# EAGLE library part LX1720 (library Audio-Power-amlifier V.2.0)
The LX1720 is a highly-integrated, Switching Class-D Stereo Power Amplifier Controller IC with power and size features that make it ideal for multimedia computer applications, as well as other applications where high fidelity sound is required. With input voltage ranging from 7V- 15V, the LX1720 is designed to operate over the full 20Hz to 20kHz audio range. Signal distortion measurements using industry standard 1kHz signal yields THD + noise levels < 1% (10 watts output).
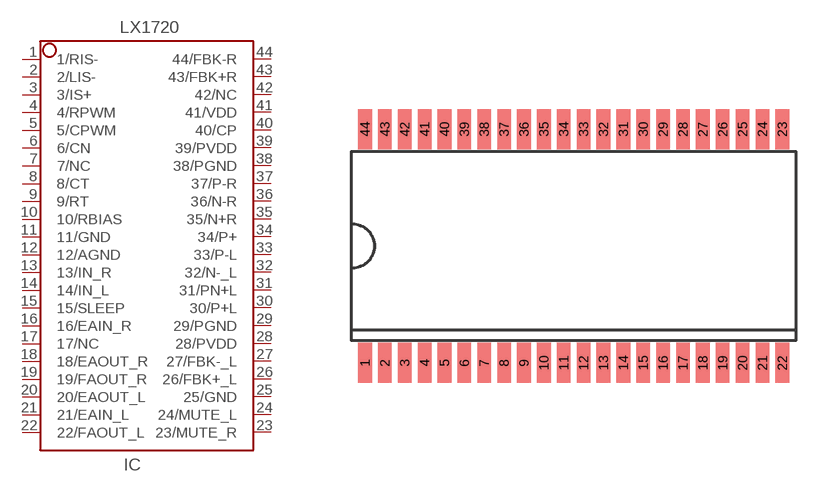
[diagram p151: symbol with the pads of SSOP44_DB; footprint SSOP44_DB]

Designator prefix IC

## LX1720  [SSOP44_DB]
1  1/RIS-  in
2  2/LIS-  in
3  3/IS+  in
4  4/RPWM
5  5/CPWM
6  6/CN  out
7  7/NC  nc
8  8/CT
9  9/RT
10  10/RBIAS
11  11/GND  pwr
12  12/AGND  pwr
13  13/IN_R  in
14  14/IN_L  in
15  15/SLEEP  in
16  16/EAIN_R  in
17  17/NC  nc
18  18/EAOUT_R  out
19  19/FAOUT_R  out
20  20/EAOUT_L  out
21  21/EAIN_L  in
22  22/FAOUT_L  out
23  23/MUTE_R  in
24  24/MUTE_L  in
25  25/GND  pwr
26  26/FBK+_L  in
27  27/FBK-_L  in
28  28/PVDD  out
29  29/PGND  pwr
30  30/P+L  out
31  31/PN+L  out
32  32/N-_L  out
33  33/P-L  out
34  34/P+  out
35  35/N+R  out
36  36/N-R  out
37  37/P-R  out
38  38/PGND  pwr
39  39/PVDD  out
40  40/CP  out
41  41/VDD  pwr
42  42/NC  pwr
43  43/FBK+R  in
44  44/FBK-R  in

## Footprint SSOP44_DB (pad centres in mm)
SSOP044_DB_7,5X17,83X0,8
smd 0.55 x 1.6: 1 -8.4,-4.7; 2 -7.6,-4.7; 3 -6.8,-4.7; 4 -6,-4.7; 5 -5.2,-4.7; 6 -4.4,-4.7; 7 -3.6,-4.7; 8 -2.8,-4.7; 9 -2,-4.7; 10 -1.2,-4.7; 11 -0.4,-4.7; 12 0.4,-4.7; 13 1.2,-4.7; 14 2,-4.7; 15 2.8,-4.7; 16 3.6,-4.7; 17 4.4,-4.7; 18 5.2,-4.7; 19 6,-4.7; 20 6.8,-4.7; 21 7.6,-4.7; 22 8.4,-4.7; 23 8.4,4.7; 24 7.6,4.7; 25 6.8,4.7; 26 6,4.7; 27 5.2,4.7; 28 4.4,4.7; 29 3.6,4.7; 30 2.8,4.7; 31 2,4.7; 32 1.2,4.7; 33 0.4,4.7; 34 -0.4,4.7; 35 -1.2,4.7; 36 -2,4.7; 37 -2.8,4.7; 38 -3.6,4.7; 39 -4.4,4.7; 40 -5.2,4.7; 41 -6,4.7; 42 -6.8,4.7; 43 -7.6,4.7; 44 -8.4,4.7